# Altium footprint library Relay.PcbLib: 8 footprints
Each footprint in its own frame and in the unit in brackets; x right, y up, seen from the top. Pads: shape width x height; smd on the part's side, far side on the other; paste and mask are expansions set on the pad; w line width, h text height; cw(c..) or ccw(c..) is an arc to the next point about the centre after c.
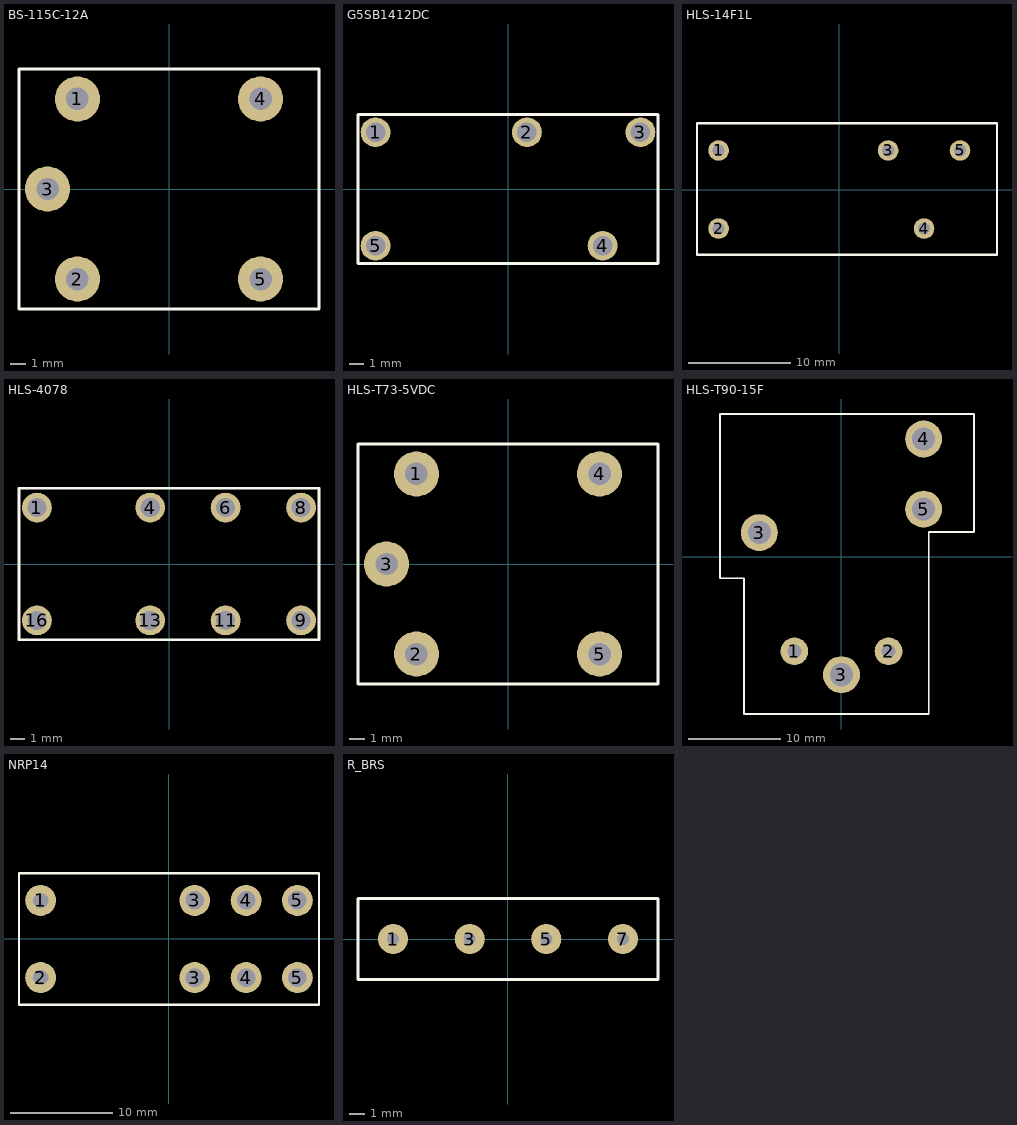
[diagram p0: the footprints below, top view; thin cyan lines are the x and y axes]

## BS-115C-12A [mm]
pads (5):
  round 3 hole 1.5: 1(-6.1,6) 2(-6.1,-6) 3(-8.1,0) 4(6.1,6) 5(6.1,-6)
Top Overlay:
  lines w0.2: -10,-8 -10,8 10,8 10,-8 -10,-8
3D body: height 15, standoff -3, extent -9.75,-7.95 9.75,7.95

## G5SB1412DC [mm]
height 20.6
pads (5):
  round 2 hole 1.3: 1(-8.89,3.81) 2(1.27,3.81) 3(8.89,3.81) 4(6.35,-3.81) 5(-8.89,-3.81)
Top Overlay:
  lines w0.2: -10.07,-5 10.07,-5 10.07,5 -10.07,5 -10.07,-5
3D body: height 15.8, standoff 0, extent -10.07,-5 10.07,5

## HLS-14F1L [mm]
height 20.6
pads (5):
  round 2 hole 1.2: 1(-11.75,3.8) 2(-11.75,-3.8) 3(4.75,3.8) 4(8.25,-3.8) 5(11.75,3.8)
Top Overlay:
  lines w0.2: -13.85,-6.35 -13.85,6.45 15.35,6.45 15.35,-6.35 -13.85,-6.35
3D body: height 20.6, standoff 0, extent -13.75,-6.2 15.25,6.3

## HLS-4078 [mm]
pads (8):
  round 2 hole 1.3: 1(-8.89,3.8) 4(-1.27,3.8) 6(3.81,3.8) 8(8.89,3.8) 9(8.89,-3.8) 11(3.81,-3.8) 13(-1.27,-3.8) 16(-8.89,-3.8)
Top Overlay:
  lines w0.2: -10.1,-5.1 10.1,-5.1 10.1,5.1 -10.1,5.1 -10.1,-5.1
3D body: height 11.51, standoff -4, extent -10.25,-5 10.25,5

## HLS-T73-5VDC [mm]
pads (5):
  round 3 hole 1.5: 1(-6.1,6) 2(-6.1,-6) 3(-8.1,0) 4(6.1,6) 5(6.1,-6)
Top Overlay:
  lines w0.2: -10,-8 10,-8 10,8 -10,8 -10,-8
3D body: height 15, standoff -3, extent -9.75,-7.95 9.75,7.95

## HLS-T90-15F [mm]
pads (6):
  round 3 hole 1.5: 1(-5.1,-10.23) 2(5.1,-10.23)
  round 4 hole 2.5: 3(-8.9,2.63) 3(0,-12.77) 4(8.9,12.77) 5(8.9,5.17)
Top Overlay:
  lines w0.2: -13.15,-2.325 -13.15,15.475 14.35,15.475 14.35,2.675 9.45,2.675 9.45,-17.025 -10.55,-17.025 -10.55,-2.325 -13.15,-2.325
3D body: height 20.2, standoff -2.8, extent -12.85,-16.83 14.15,15.17

## NRP14 [mm]
pads (8):
  round 3 hole 1.5: 1(-12.5,3.75) 2(-12.5,-3.75)
  round 3 hole 1.8: 3(2.5,-3.75) 3(2.5,3.75) 4(7.5,-3.75) 4(7.5,3.75) 5(12.5,-3.75) 5(12.5,3.75)
Top Overlay:
  lines w0.2: -14.6,-6.4 -14.6,6.4 14.6,6.4 14.6,-6.4 -14.6,-6.4
3D body: height 20.6, standoff 0, extent -14.5,-6.25 14.5,6.25

## R_BRS [mm]
height 7.8
pads (4):
  round 2 hole 0.8: 1(-7.62,0) 3(-2.54,0) 5(2.54,0) 7(7.62,0)
Top Overlay:
  lines w0.2: -9.95,-2.7 9.95,-2.7 9.95,2.7 -9.95,2.7 -9.95,-2.7
3D body: height 7.8, standoff -1.4, extent -9.525,-2.56 9.525,2.55